# Altium footprint library 2019-06-08_05-46-33.PcbLib: 3 footprints
Each footprint in its own frame and in the unit in brackets; x right, y up, seen from the top. Pads: shape width x height; smd on the part's side, far side on the other; paste and mask are expansions set on the pad; w line width, h text height; cw(c..) or ccw(c..) is an arc to the next point about the centre after c.
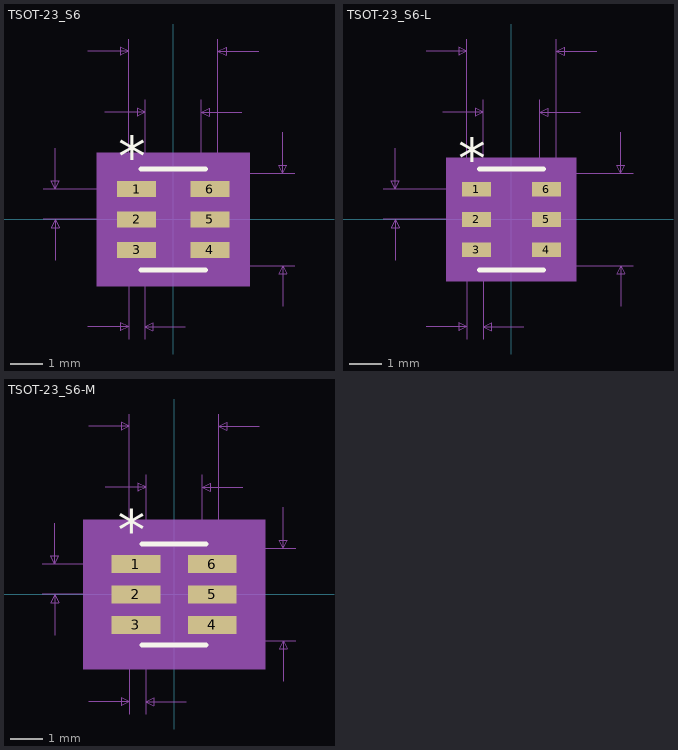
[diagram p0: the footprints below, top view; thin cyan lines are the x and y axes]

## TSOT-23_S6 [mil]
pads (6):
  rect 48x20 smd paste+0 mask+0: 1(-45,37.4) 2(-45,0) 3(-45,-37.4) 4(45,-37.4) 5(45,0) 6(45,37.4)
Top Overlay:
  lines w6: -39.5,-62 39.5,-62 ; -39.5,62 39.5,62
  text "*" at -67.5,52.4 h50
Mechanical 5:
  region: 94,-82 -94,-82 -94,82 94,82
Mechanical 7:
  lines w1: -160,0 -45,0 ; -160,37.4 -45,37.4 ; -145,-50 -145,0 ; -145,87.4 -145,37.4 ; -105,-132 -55,-132 ; -105,207 -55,207 ; -84.5,132 -34.5,132 ; -55,-147 -55,0 -55,222 ; -35,-147 -35,0 ; -34.5,0 -34.5,147 ; 0,-57 149.5,-57 ; 0,57 149.5,57 ; 15,-132 -35,-132 ; 34.5,0 34.5,147 ; 55,0 55,222 ; 84.5,132 34.5,132 ; 105,207 55,207 ; 134.5,-107 134.5,-57 ; 134.5,107 134.5,57 ; -145,0 -150,-10 -140,-10 -145,0 ; -145,37.4 -150,47.4 -140,47.4 -145,37.4 ; -55,-132 -65,-127 -65,-137 -55,-132 ; -55,207 -65,212 -65,202 -55,207 ; -35,-132 -25,-127 -25,-137 -35,-132 ; -34.5,132 -44.5,137 -44.5,127 -34.5,132 ; 34.5,132 44.5,137 44.5,127 34.5,132 ; 55,207 65,212 65,202 55,207 ; 134.5,-57 129.5,-67 139.5,-67 134.5,-57 ; 134.5,57 129.5,67 139.5,67 134.5,57
  text "Default Padstyle: RX48Y20D0T" at -350,-257 h50
  text "Pin One Padstyle: RX48Y20D0T" at -350,-317 h50
  text "Alt 1 Padstyle: OX60Y90D30P" at -337.5,-497 h50
  text "Alt 2 Padstyle: OX90Y60D30P" at -337.5,-557 h50
  text "0.069in/1.753mm" at -93.75,152 h25
  text "0.11in/2.794mm" at -87.5,227 h25
  text "0.114in/2.896mm" at 154.5,-12.5 h25
  text "0.037in/0.95mm" at -340,6.2 h25
  text "0.02in/0.508mm" at -132.5,-177 h25
Mechanical 13:
  lines w0: -12,57 ccw(c0,57) 12,57
  lines w1: -55,-46.4 -55,-28.4 -34.5,-28.4 -34.5,-46.4 -55,-46.4 ; -55,-9 -55,9 -34.5,9 -34.5,-9 -55,-9 ; -55,28.4 -55,46.4 -34.5,46.4 -34.5,28.4 -55,28.4 ; -34.5,-57 34.5,-57 34.5,57 -34.5,57 -34.5,-57 ; 34.5,-46.4 34.5,-28.4 55,-28.4 55,-46.4 34.5,-46.4 ; 34.5,-9 34.5,9 55,9 55,-9 34.5,-9 ; 34.5,28.4 34.5,46.4 55,46.4 55,28.4 34.5,28.4
  text "*" at -32,4 h50
Mechanical 15:
  region: -44.5,-57.4 -79,-57.4 -79,57.4 -44.5,57.4 -44.5,67 44.5,67 44.5,57.4 79,57.4 79,-57.4 44.5,-57.4 44.5,-67 -44.5,-67
  lines w6: -79,-57.4 -79,57.4 -44.5,57.4 -44.5,67 44.5,67 44.5,57.4 79,57.4 79,-57.4 44.5,-57.4 44.5,-67 -44.5,-67 -44.5,-57.4 -79,-57.4
3D body: height 10, standoff 0, extent 0,0 10,10

## TSOT-23_S6-L [mil]
pads (6):
  rect 36x18 smd paste+0 mask+0: 1(-43,37.4) 2(-43,0) 3(-43,-37.4) 4(43,-37.4) 5(43,0) 6(43,37.4)
Top Overlay:
  lines w6: -39.5,-62 39.5,-62 ; -39.5,62 39.5,62
  text "*" at -65.5,50.4 h50
Mechanical 5:
  region: 80,-76 -80,-76 -80,76 80,76
Mechanical 7:
  lines w1: -158,0 -43,0 ; -158,37.4 -43,37.4 ; -143,-50 -143,0 ; -143,87.4 -143,37.4 ; -105,-132 -55,-132 ; -105,207 -55,207 ; -84.5,132 -34.5,132 ; -55,-147 -55,0 -55,222 ; -35,-147 -35,0 ; -34.5,0 -34.5,147 ; 0,-57 149.5,-57 ; 0,57 149.5,57 ; 15,-132 -35,-132 ; 34.5,0 34.5,147 ; 55,0 55,222 ; 84.5,132 34.5,132 ; 105,207 55,207 ; 134.5,-107 134.5,-57 ; 134.5,107 134.5,57 ; -143,0 -148,-10 -138,-10 -143,0 ; -143,37.4 -148,47.4 -138,47.4 -143,37.4 ; -55,-132 -65,-127 -65,-137 -55,-132 ; -55,207 -65,212 -65,202 -55,207 ; -35,-132 -25,-127 -25,-137 -35,-132 ; -34.5,132 -44.5,137 -44.5,127 -34.5,132 ; 34.5,132 44.5,137 44.5,127 34.5,132 ; 55,207 65,212 65,202 55,207 ; 134.5,-57 129.5,-67 139.5,-67 134.5,-57 ; 134.5,57 129.5,67 139.5,67 134.5,57
  text "Default Padstyle: RX36Y18D0T" at -350,-257 h50
  text "Pin One Padstyle: RX36Y18D0T" at -350,-317 h50
  text "Alt 1 Padstyle: OX60Y90D30P" at -337.5,-497 h50
  text "Alt 2 Padstyle: OX90Y60D30P" at -337.5,-557 h50
  text "0.069in/1.753mm" at -93.75,152 h25
  text "0.11in/2.794mm" at -87.5,227 h25
  text "0.114in/2.896mm" at 154.5,-12.5 h25
  text "0.037in/0.95mm" at -338,6.2 h25
  text "0.02in/0.508mm" at -132.5,-177 h25
Mechanical 13:
  lines w0: -12,57 ccw(c0,57) 12,57
  lines w1: -55,-46.4 -55,-28.4 -34.5,-28.4 -34.5,-46.4 -55,-46.4 ; -55,-9 -55,9 -34.5,9 -34.5,-9 -55,-9 ; -55,28.4 -55,46.4 -34.5,46.4 -34.5,28.4 -55,28.4 ; -34.5,-57 34.5,-57 34.5,57 -34.5,57 -34.5,-57 ; 34.5,-46.4 34.5,-28.4 55,-28.4 55,-46.4 34.5,-46.4 ; 34.5,-9 34.5,9 55,9 55,-9 34.5,-9 ; 34.5,28.4 34.5,46.4 55,46.4 55,28.4 34.5,28.4
  text "*" at -32,4 h50
Mechanical 15:
  region: -38.5,-50.4 -65,-50.4 -65,50.4 -38.5,50.4 -38.5,61 38.5,61 38.5,50.4 65,50.4 65,-50.4 38.5,-50.4 38.5,-61 -38.5,-61
  lines w6: -65,-50.4 -65,50.4 -38.5,50.4 -38.5,61 38.5,61 38.5,50.4 65,50.4 65,-50.4 38.5,-50.4 38.5,-61 -38.5,-61 -38.5,-50.4 -65,-50.4
3D body: height 10, standoff 0, extent 0,0 10,10

## TSOT-23_S6-M [mil]
pads (6):
  rect 60x22 smd paste+0 mask+0: 1(-47,37.4) 2(-47,0) 3(-47,-37.4) 4(47,-37.4) 5(47,0) 6(47,37.4)
Top Overlay:
  lines w6: -39.5,-62 39.5,-62 ; -39.5,62 39.5,62
  text "*" at -69.5,54.4 h50
Mechanical 5:
  region: 112,-92 -112,-92 -112,92 112,92
Mechanical 7:
  lines w1: -162,0 -47,0 ; -162,37.4 -47,37.4 ; -147,-50 -147,0 ; -147,87.4 -147,37.4 ; -105,-132 -55,-132 ; -105,207 -55,207 ; -84.5,132 -34.5,132 ; -55,-147 -55,0 -55,222 ; -35,-147 -35,0 ; -34.5,0 -34.5,147 ; 0,-57 149.5,-57 ; 0,57 149.5,57 ; 15,-132 -35,-132 ; 34.5,0 34.5,147 ; 55,0 55,222 ; 84.5,132 34.5,132 ; 105,207 55,207 ; 134.5,-107 134.5,-57 ; 134.5,107 134.5,57 ; -147,0 -152,-10 -142,-10 -147,0 ; -147,37.4 -152,47.4 -142,47.4 -147,37.4 ; -55,-132 -65,-127 -65,-137 -55,-132 ; -55,207 -65,212 -65,202 -55,207 ; -35,-132 -25,-127 -25,-137 -35,-132 ; -34.5,132 -44.5,137 -44.5,127 -34.5,132 ; 34.5,132 44.5,137 44.5,127 34.5,132 ; 55,207 65,212 65,202 55,207 ; 134.5,-57 129.5,-67 139.5,-67 134.5,-57 ; 134.5,57 129.5,67 139.5,67 134.5,57
  text "Default Padstyle: RX60Y22D0T" at -350,-257 h50
  text "Pin One Padstyle: RX60Y22D0T" at -350,-317 h50
  text "Alt 1 Padstyle: OX60Y90D30P" at -337.5,-497 h50
  text "Alt 2 Padstyle: OX90Y60D30P" at -337.5,-557 h50
  text "0.069in/1.753mm" at -93.75,152 h25
  text "0.11in/2.794mm" at -87.5,227 h25
  text "0.114in/2.896mm" at 154.5,-12.5 h25
  text "0.037in/0.95mm" at -342,6.2 h25
  text "0.02in/0.508mm" at -132.5,-177 h25
Mechanical 13:
  lines w0: -12,57 ccw(c0,57) 12,57
  lines w1: -55,-46.4 -55,-28.4 -34.5,-28.4 -34.5,-46.4 -55,-46.4 ; -55,-9 -55,9 -34.5,9 -34.5,-9 -55,-9 ; -55,28.4 -55,46.4 -34.5,46.4 -34.5,28.4 -55,28.4 ; -34.5,-57 34.5,-57 34.5,57 -34.5,57 -34.5,-57 ; 34.5,-46.4 34.5,-28.4 55,-28.4 55,-46.4 34.5,-46.4 ; 34.5,-9 34.5,9 55,9 55,-9 34.5,-9 ; 34.5,28.4 34.5,46.4 55,46.4 55,28.4 34.5,28.4
  text "*" at -32,4 h50
Mechanical 15:
  region: -54.5,-68.4 -97,-68.4 -97,68.4 -54.5,68.4 -54.5,77 54.5,77 54.5,68.4 97,68.4 97,-68.4 54.5,-68.4 54.5,-77 -54.5,-77
  lines w6: -97,-68.4 -97,68.4 -54.5,68.4 -54.5,77 54.5,77 54.5,68.4 97,68.4 97,-68.4 54.5,-68.4 54.5,-77 -54.5,-77 -54.5,-68.4 -97,-68.4
3D body: height 10, standoff 0, extent 0,0 10,10